# EAGLE library part CONN_2X04_ZZ_SHX2 (library GPLIB_CONN)
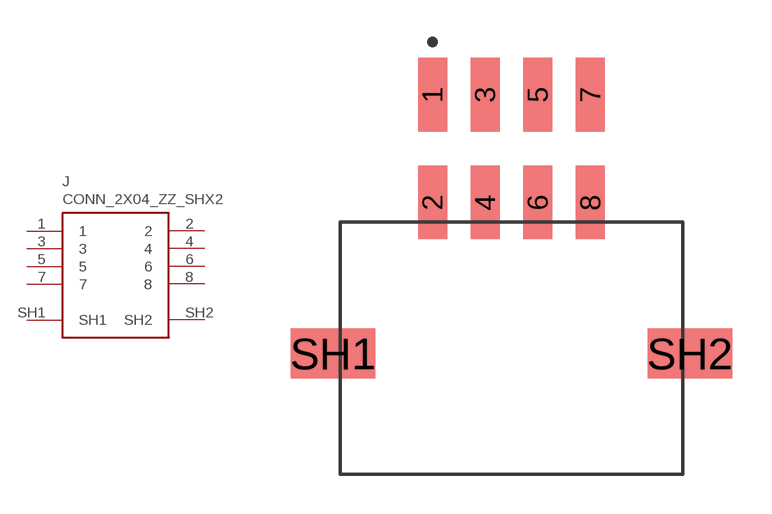
[diagram p43: symbol with the pads of CONN_2X04_ZZ_2.0MM_SM_RA_PHB-8AWB; footprint CONN_2X04_ZZ_2.0MM_SM_RA_PHB-8AWB]

Designator prefix J

## CONN_2X04_ZZ_SHX2_2.0MM_SM_RA_PHB-8AWB  [CONN_2X04_ZZ_2.0MM_SM_RA_PHB-8AWB]
1  1  pas
2  2  pas
3  3  pas
4  4  pas
5  5  pas
6  6  pas
7  7  pas
8  8  pas
SH1  SH1  pas
SH2  SH2  pas

## Footprint CONN_2X04_ZZ_2.0MM_SM_RA_PHB-8AWB (pad centres in mm)
smd 1.1 x 2.8: 1 -3,4.925; 2 -3,0.825; 3 -1,4.925; 4 -1,0.825; 5 1,4.925; 6 1,0.825; 7 3,4.925; 8 3,0.825
smd 3.2 x 1.9: SH1 -6.78,-4.925; SH2 6.78,-4.925